# Altium footprint library 39299044.PcbLib: 1 footprints
Each footprint in its own frame and in the unit in brackets; x right, y up, seen from the top. Pads: shape width x height; smd on the part's side, far side on the other; paste and mask are expansions set on the pad; w line width, h text height; cw(c..) or ccw(c..) is an arc to the next point about the centre after c.
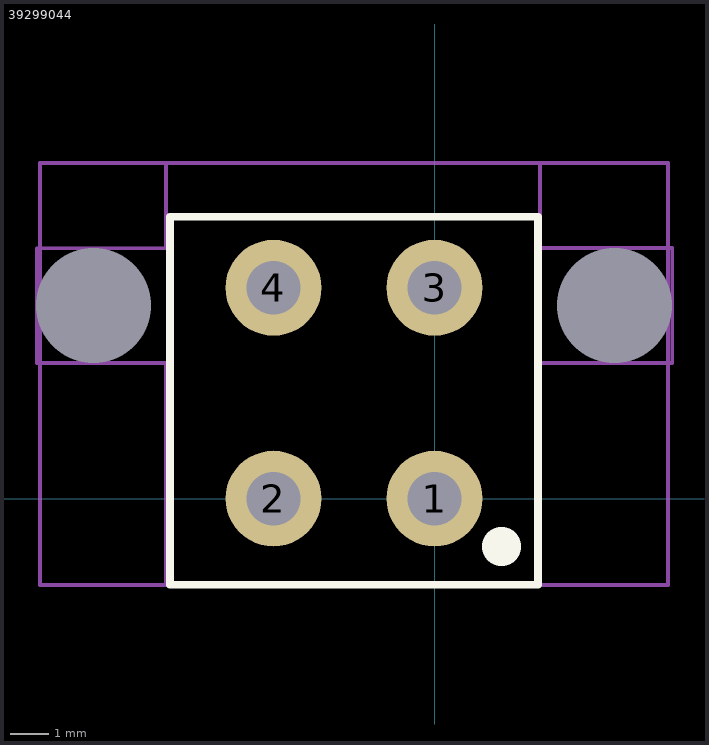
[diagram p0: the footprint, top view; thin cyan lines are the x and y axes]

## 39299044 [mm] "4 POS MOLEX VERT"
pads (6):
  round 2.5 hole 1.4: 1(0,0) 2(-4.2,0) 3(0,5.5) 4(-4.2,5.5)
  round 0 hole 3 unplated: MH1(-8.9,5.04) MH1(4.7,5.04)
Top Overlay:
  circle w1: c1.75,-1.25 r0.01
  lines w0.2: -6.9,-2.25 2.7,-2.25 2.7,7.35 -6.9,7.35 -6.9,-2.25
Mechanical 13:
  lines w0.1: -10.289,-2.25 6.089,-2.25 6.089,8.75 -10.289,8.75 -10.289,-2.25
Mechanical 15:
  lines w0.1: -10.369,3.54 -7,3.54 -7,-2.25 2.75,-2.25 2.75,3.54 6.2,3.54 6.2,6.54 2.75,6.54 2.75,8.75 -7,8.75 -7,6.529 -10.369,6.529 -10.369,5.119 -10.369,3.54
3D body "039299044.stp": height 12.8, standoff -3.5, extent -10.289,-2.25 6.089,8.75